# Altium footprint library znzt.PcbLib: 23 footprints (part 1 of 2)
Each footprint in its own frame and in the unit in brackets; x right, y up, seen from the top. Pads: shape width x height; smd on the part's side, far side on the other; paste and mask are expansions set on the pad; w line width, h text height; cw(c..) or ccw(c..) is an arc to the next point about the centre after c.
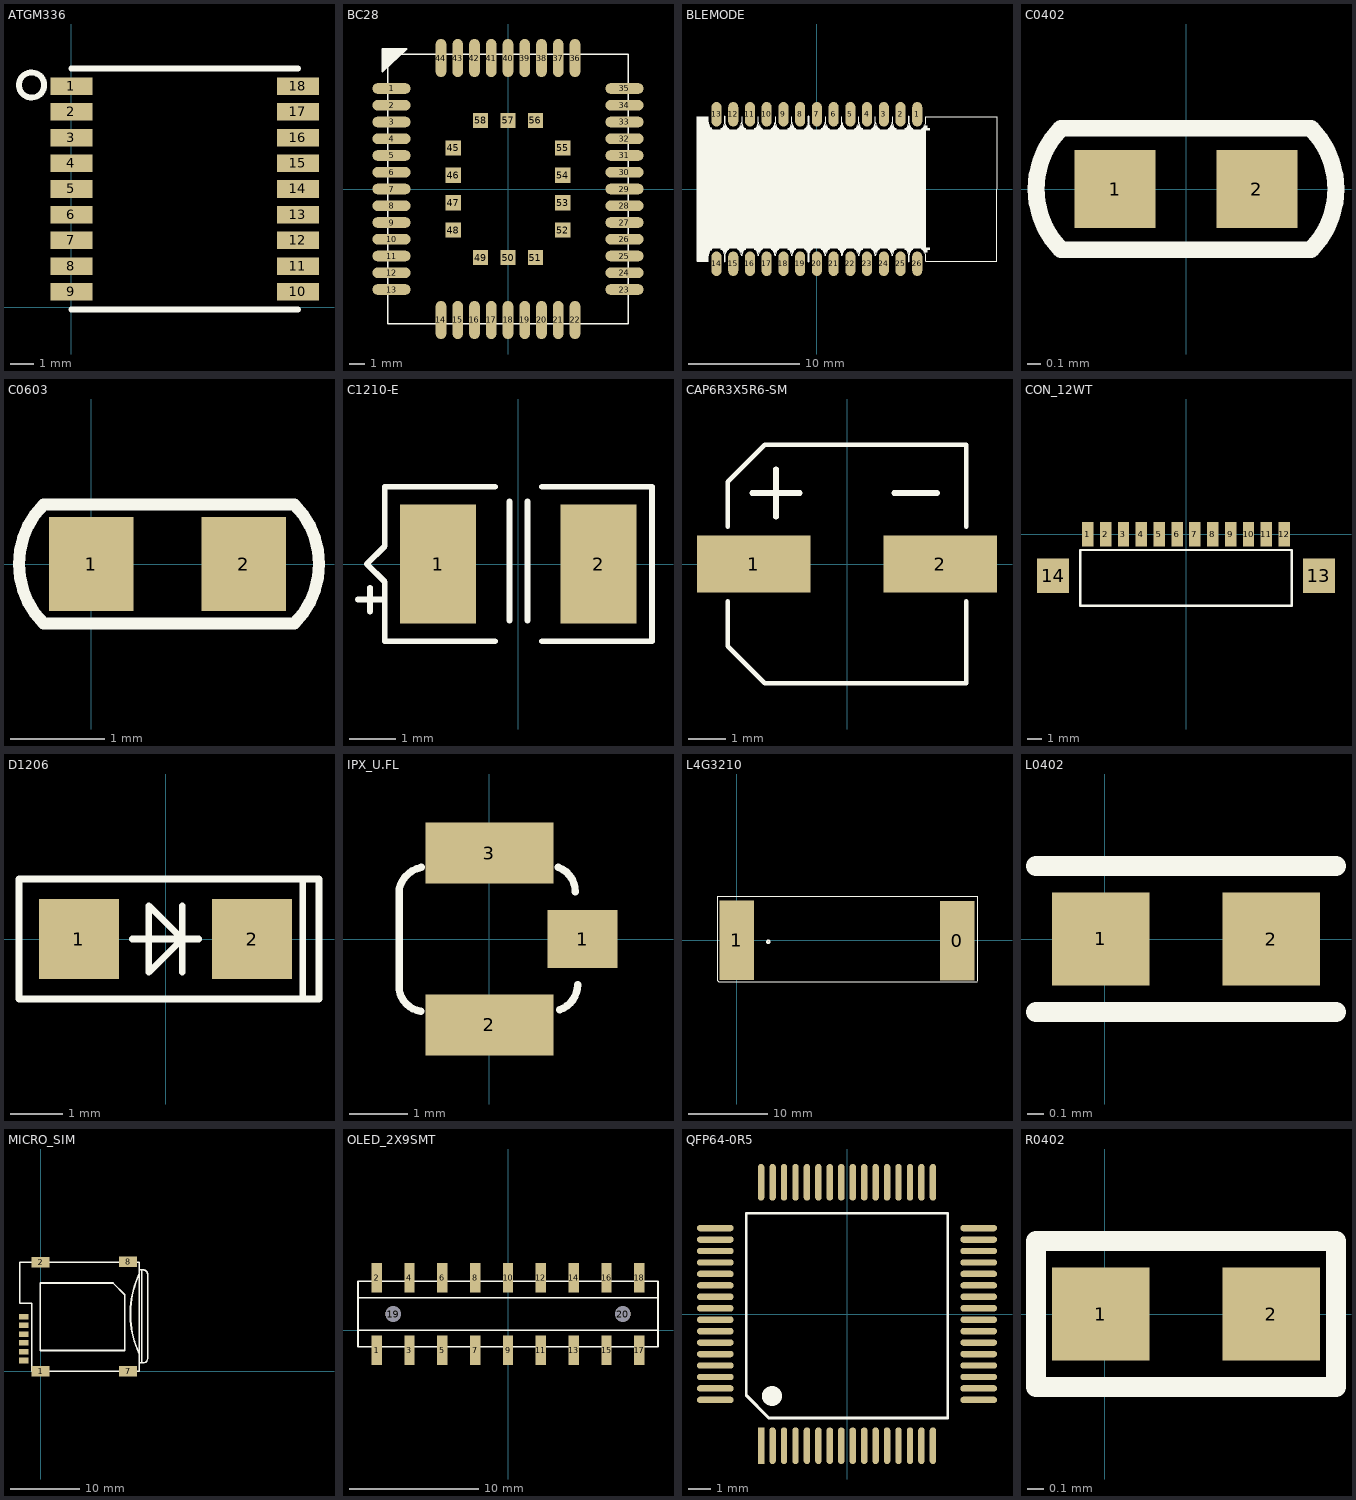
[diagram p0: the footprints below, top view; thin cyan lines are the x and y axes]

## ATGM336 [mm]
pads (18):
  rect 1.8x0.75 smd: 1(0,9.45) 2(0,8.35) 3(0,7.25) 4(0,6.15) 5(0,5.05) 6(0,3.95) 7(0,2.85) 8(0,1.75) 9(0,0.65) 10(9.7,0.65) 11(9.7,1.75) 12(9.7,2.85) 13(9.7,3.95) 14(9.7,5.05) 15(9.7,6.15) 16(9.7,7.25) 17(9.7,8.35) 18(9.7,9.45)
Top Overlay:
  circle w0.25: c-1.7,9.5 r0.539
  lines w0.25: 0,-0.1 9.7,-0.1 ; 0,10.2 9.7,10.2

## BC28 [mm]
height 2.05
pads (58):
  oval 2.5x0.7 smd mask+0.05: 1(-7.65,6.6) 2(-7.65,5.5) 3(-7.65,4.4) 4(-7.65,3.3) 5(-7.65,2.2) 6(-7.65,1.1) 7(-7.65,0) 8(-7.65,-1.1) 9(-7.65,-2.2) 10(-7.65,-3.3) 11(-7.65,-4.4) 12(-7.65,-5.5) 13(-7.65,-6.6) 23(7.65,-6.6) 24(7.65,-5.5) 25(7.65,-4.4) 26(7.65,-3.3) 27(7.65,-2.2) 28(7.65,-1.1) 29(7.65,0) 30(7.65,1.1) 31(7.65,2.2) 32(7.65,3.3) 33(7.65,4.4) 34(7.65,5.5) 35(7.65,6.6)
  oval 0.7x2.5 smd mask+0.05: 14(-4.4,-8.6) 15(-3.3,-8.6) 16(-2.2,-8.6) 17(-1.1,-8.6) 18(0,-8.6) 19(1.1,-8.6) 20(2.2,-8.6) 21(3.3,-8.6) 22(4.4,-8.6) 36(4.4,8.6) 37(3.3,8.6) 38(2.2,8.6) 39(1.1,8.6) 40(0,8.6) 41(-1.1,8.6) 42(-2.2,8.6) 43(-3.3,8.6) 44(-4.4,8.6)
  rect 1x1 smd mask+0.05: 45(-3.6,2.7) 46(-3.6,0.9) 47(-3.6,-0.9) 48(-3.6,-2.7) 49(-1.8,-4.5) 50(0,-4.5) 51(1.8,-4.5) 52(3.6,-2.7) 53(3.6,-0.9) 54(3.6,0.9) 55(3.6,2.7) 56(1.8,4.5) 57(0,4.5) 58(-1.8,4.5)
Top Overlay:
  lines w0.1: -8.25,7.696 -6.641,9.2 -8.25,9.2 -8.25,7.696 ; -8.182,7.836 -8.182,9.003 -7.832,9.003 -7.832,8.186 -8.182,7.836 ; -8.176,7.923 -8.176,9.17 -6.929,9.17 -8.176,7.923 ; -8.128,8.236 -8.128,8.999 -7.35,8.999 -7.35,9.014 -8.128,8.236 ; -8.126,9.057 -8.044,9.057 -8.044,8.012 -6.979,9.077 -8.126,9.077 -8.126,9.057 ; -8.108,7.984 -8.108,9 -7.462,9 -7.462,8.63 -8.108,7.984 ; -7.973,8.069 -7.973,9.168 -6.824,9.168 -7.923,8.069 -7.973,8.069 ; -7.95,8.354 -7.95,9.103 -7.143,9.103 -7.921,8.325 -7.95,8.354 ; -7.9,-8.85 7.9,-8.85 7.9,8.85 -7.9,8.85 -7.9,-8.85 ; -7.898,8.785 -7.898,9.113 -7.56,9.113 -7.56,8.785 -7.898,8.785 ; -7.893,8.159 -7.893,8.707 -7.7,8.707 -7.7,9.174 -6.733,9.174 -7.748,8.159 -7.893,8.159 ; -7.842,8.354 -7.842,8.961 -7.758,9.045 -7.758,9.039 -7.157,9.039 -7.842,8.354 ; -7.773,8.795 -7.773,9.05 -7.627,9.05 -7.627,8.795 -7.773,8.795

## BLEMODE [mm]
pads (26):
  oval 0.9x2.2 smd: 1(9,6.7) 2(7.5,6.7) 3(6,6.7) 4(4.5,6.7) 5(3,6.7) 6(1.5,6.7) 7(0,6.7) 8(-1.5,6.7) 9(-3,6.7) 10(-4.5,6.7) 11(-6,6.7) 12(-7.5,6.7) 13(-9,6.7) 14(-9,-6.7) 15(-7.5,-6.7) 16(-6,-6.7) 17(-4.5,-6.7) 18(-3,-6.7) 19(-1.5,-6.7) 20(0,-6.7) 21(1.5,-6.7) 22(3,-6.7) 23(4.5,-6.7) 24(6,-6.7) 25(7.5,-6.7) 26(9,-6.7)
Top Overlay:
  drawing of 139 lines, arcs and shapes, not listed

## C0402 [mil]
pads (2):
  rect 24x23 smd: 1(-21,0) 2(21,0)
Top Overlay:
  lines w5: -37,-18 cw(c-19,0) -37,18 37,18 cw(c19,0) 37,-18 -37,-18

## C0603 [mm]
pads (2):
  rect 0.9x1 smd: 1(0,0) 2(1.62,0)
Top Overlay:
  lines w0.127: -0.508,-0.635 cw(c0.127,0) -0.508,0.635 2.159,0.635 cw(c1.524,0) 2.159,-0.635 -0.508,-0.635

## C1210-E [mil]
pads (2):
  rect 64x100 smd: 1(-67.5,0) 2(67.5,0)
Top Overlay:
  lines w5: -135,-30 -115,-30 ; -125,-40 -125,-20 ; -19.69,-65 -112.5,-65 -112.5,-15 -127.5,0 -112.5,15 -112.5,65 -19.69,65 ; -7.5,-47.5 -7.5,52.5 ; 7.5,-47.5 7.5,52.5 ; 19.69,-65 112.5,-65 112.5,65 19.69,65

## CAP6R3X5R6-SM [mil]
pads (2):
  rect 120x60 smd: 1(-98.43,0) 2(98.43,0)
Top Overlay:
  lines w5: -125.98,-39.37 -125.98,-86.61 -86.61,-125.98 125.98,-125.98 125.98,-39.37 ; -125.98,39.37 -125.98,86.61 -86.61,125.98 125.98,125.98 125.98,39.37
  lines w6: -100,75 -50,75 ; -75,50 -75,100 ; 50,75 95,75

## CON_12WT [mm]
pads (14):
  rect 0.8x1.7 smd: 1(-6.875,0) 2(-5.625,0) 3(-4.375,0) 4(-3.125,0) 5(-1.875,0) 6(-0.625,0) 7(0.625,0) 8(1.875,0) 9(3.125,0) 10(4.375,0) 11(5.625,0) 12(6.875,0)
  rect 2.25x2.4 smd: 13(9.3,-2.9) 14(-9.3,-2.9)
Top Overlay:
  lines w0.15: -7.4,-5 -7.4,-1.1 7.4,-1.1 7.4,-5 -7.4,-5

## D1206 [mil]
pads (2):
  rect 60x60 smd: 1(-65,0) 2(65,0)
Top Overlay:
  lines w5: -25,0 25,0 ; 12.5,-25 12.5,25 ; 101.5,45 115,45 ; 103,-45 103,45 -110,45 -110,-45 115.18,-45 115.18,45 ; -12.5,-25 12.5,0 -12.5,25 -12.5,-25

## IPX_U.FL [mm]
pads (3):
  rect 1.2x1 smd: 1(1.6,0)
  rect 2.2x1.05 smd: 2(0,-1.475) 3(0,1.475)
Top Overlay:
  lines w0.127: -1.55,-0.54 -1.55,0.85 cw(c-1.067,0.747) -1.17,1.23 ; -1.55,-0.3 -1.55,-0.87 ccw(c-1.108,-0.798) -1.18,-1.24 ; 1.184,1.231 cw(c1.026,0.809) 1.476,0.809 ; 1.206,-1.214 ccw(c1.064,-0.787) 1.514,-0.787

## L4G3210 [mm]
pads (2):
  rect 4.3x10 smd: 0(27.711,-0.051) 1(0,0)
Top Overlay:
  circle w0.254: c3.962,-0.178 r0.155
  lines w0.127: -2.362,-5.055 -2.235,-5.182 30.201,-5.182 30.302,-5.08 30.302,5.537 -2.362,5.537 -2.362,-5.055

## L0402 [mil]
pads (2):
  rect 24x23 smd: 1(-1,0) 2(41,0)
Top Overlay:
  lines w5: -17,-18 57,-18 ; -17,18 57,18

## MICRO_SIM [mm]
pads (10):
  rect 2.6x1.55 smd: 1(0,0) 2(0,15.8) 7(12.68,0) 8(12.68,15.85)
  rect 1.35x0.8 smd: C1(-2.45,2.83) C2(-2.45,5.37) C3(-2.45,7.91) C5(-2.45,1.56) C6(-2.45,4.1) C7(-2.45,6.64)
Top Overlay:
  lines w0.2: 14.7,1.3 14.7,14.6 ; -3.05,9.85 -1.3,9.85 -1.3,0 14.3,0 14.3,15.8 -3.05,15.8 -3.05,9.85 ; 14.3,1.2 14.95,1.2 ccw(c14.825,1.875) 15.5,2 15.5,13.9 ccw(c14.825,14.025) 14.95,14.7 14.3,14.7 14.3,1.2
  lines w0.254: 14.247,2.632 cw(c26.683,8.3) 14.257,13.989 ; -0.05,3 12.2,3 12.2,11.1 10.5,12.8 -0.05,12.8 -0.05,3

## OLED_2X9SMT [mm]
pads (20):
  rect 0.8x2.3 smd: 1(-10.16,-1.53) 2(-10.16,4.07) 3(-7.62,-1.53) 4(-7.62,4.07) 5(-5.08,-1.53) 6(-5.08,4.07) 7(-2.54,-1.53) 8(-2.54,4.07) 9(0,-1.53) 10(0,4.07) 11(2.54,-1.53) 12(2.54,4.07) 13(5.08,-1.53) 14(5.08,4.07) 15(7.62,-1.53) 16(7.62,4.07) 17(10.16,-1.53) 18(10.16,4.07)
  round 1.2 hole 1.2 unplated: 19(-8.89,1.27) 20(8.89,1.27)
Top Overlay:
  lines w0.127: -11.556,2.54 11.581,2.54 ; -11.536,0 11.562,0 ; -11.6,-1.27 -11.6,3.81 11.6,3.81 11.6,-1.27 -11.6,-1.27

## QFP64-0R5 [mm]
pads (64):
  rect 0.28x1.6 smd: 1(-3.75,-5.75)
  oval 0.28x1.6 smd: 2(-3.25,-5.75) 3(-2.75,-5.75) 4(-2.25,-5.75) 5(-1.75,-5.75) 6(-1.25,-5.75) 7(-0.75,-5.75) 8(-0.25,-5.75) 9(0.25,-5.75) 10(0.75,-5.75) 11(1.25,-5.75) 12(1.75,-5.75) 13(2.25,-5.75) 14(2.75,-5.75) 15(3.25,-5.75) 16(3.75,-5.75) 33(3.75,5.75) 34(3.25,5.75) 35(2.75,5.75) 36(2.25,5.75) 37(1.75,5.75) 38(1.25,5.75) 39(0.75,5.75) 40(0.25,5.75) 41(-0.25,5.75) 42(-0.75,5.75) 43(-1.25,5.75) 44(-1.75,5.75) 45(-2.25,5.75) 46(-2.75,5.75) 47(-3.25,5.75) 48(-3.75,5.75)
  oval 1.6x0.28 smd: 17(5.75,-3.75) 18(5.75,-3.25) 19(5.75,-2.75) 20(5.75,-2.25) 21(5.75,-1.75) 22(5.75,-1.25) 23(5.75,-0.75) 24(5.75,-0.25) 25(5.75,0.25) 26(5.75,0.75) 27(5.75,1.25) 28(5.75,1.75) 29(5.75,2.25) 30(5.75,2.75) 31(5.75,3.25) 32(5.75,3.75) 49(-5.75,3.75) 50(-5.75,3.25) 51(-5.75,2.75) 52(-5.75,2.25) 53(-5.75,1.75) 54(-5.75,1.25) 55(-5.75,0.75) 56(-5.75,0.25) 57(-5.75,-0.25) 58(-5.75,-0.75) 59(-5.75,-1.25) 60(-5.75,-1.75) 61(-5.75,-2.25) 62(-5.75,-2.75) 63(-5.75,-3.25) 64(-5.75,-3.75)
Top Overlay:
  circle w0.254: c-3.277,-3.556 r0.094
  circle w0.254: c-3.277,-3.581 r0.308
  lines w0.127: -4.4,-3.55 -4.4,4.4 4.4,4.4 4.4,-4.55 -3.4,-4.55 -4.4,-3.55

## R0402 [mil]
pads (2):
  rect 24x23 smd: 1(-1,0) 2(41,0)
Top Overlay:
  lines w5: -17,-18 57,-18 57,18 -17,18 -17,-18